# Altium footprint library Xbee3_Micro_Customer_pcb_footprint.PcbLib: 1 footprints
Each footprint in its own frame and in the unit in brackets; x right, y up, seen from the top. Pads: shape width x height; smd on the part's side, far side on the other; paste and mask are expansions set on the pad; w line width, h text height; cw(c..) or ccw(c..) is an arc to the next point about the centre after c.
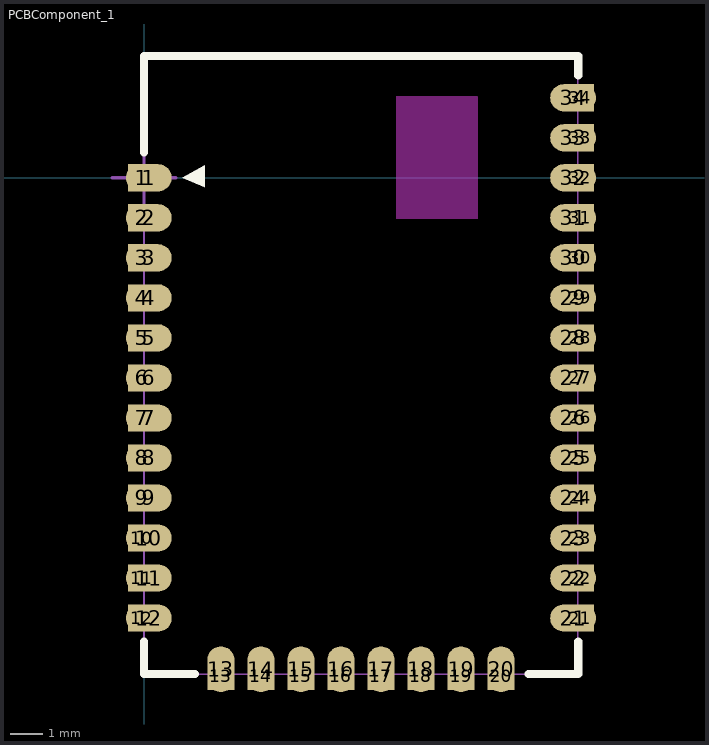
[diagram p0: the footprint, top view; thin cyan lines are the x and y axes]

## PCBComponent_1 [mm]
pads (68):
  rect 0.85x0.85 smd: 1(-0.075,0) 2(-0.075,-1.25) 3(-0.075,-2.5) 4(-0.075,-3.75) 5(-0.075,-5) 6(-0.075,-6.25) 7(-0.075,-7.5) 8(-0.075,-8.75) 9(-0.075,-10) 10(-0.075,-11.25) 11(-0.075,-12.5) 12(-0.075,-13.75) 13(2.4,-15.575) 14(3.65,-15.575) 15(4.9,-15.575) 16(6.15,-15.575) 17(7.4,-15.575) 18(8.65,-15.575) 19(9.9,-15.575) 20(11.15,-15.575) 21(13.625,-13.75) 22(13.625,-12.5) 23(13.625,-11.25) 24(13.625,-10) 25(13.625,-8.75) 26(13.625,-7.5) 27(13.625,-6.25) 28(13.625,-5) 29(13.625,-3.75) 30(13.625,-2.5) 31(13.625,-1.25) 32(13.625,0) 33(13.625,1.25) 34(13.625,2.5)
  oval 1.43x0.85 smd: 1(0.15,0) 2(0.15,-1.25) 3(0.15,-2.5) 4(0.15,-3.75) 5(0.15,-5) 6(0.15,-6.25) 7(0.15,-7.5) 8(0.15,-8.75) 9(0.15,-10) 10(0.15,-11.25) 11(0.15,-12.5) 12(0.15,-13.75) 21(13.4,-13.75) 22(13.4,-12.5) 23(13.4,-11.25) 24(13.4,-10) 25(13.4,-8.75) 26(13.4,-7.5) 27(13.4,-6.25) 28(13.4,-5) 29(13.4,-3.75) 30(13.4,-2.5) 31(13.4,-1.25) 32(13.4,0) 33(13.4,1.25) 34(13.4,2.5)
  oval 0.85x1.43 smd: 13(2.4,-15.35) 14(3.65,-15.35) 15(4.9,-15.35) 16(6.15,-15.35) 17(7.4,-15.35) 18(8.65,-15.35) 19(9.9,-15.35) 20(11.15,-15.35)
Top Layer keep-out:
  region: 7.88,2.535 10.42,2.535 10.42,-1.275 7.88,-1.275
Mid-Layer 1 keep-out:
  region: 7.874,2.534 10.414,2.534 10.414,-1.276 7.874,-1.276
Mid-Layer 2 keep-out:
  region: 7.874,2.534 10.414,2.534 10.414,-1.276 7.874,-1.276
Top Overlay:
  region: 1.9,-0.3 1.9,0.4 1.2,0
  lines w0.254: -0.003,-14.478 -0.003,-15.494 1.597,-15.494 ; -0.003,0.787 -0.003,3.81 13.56,3.81 13.56,3.2 ; 12.011,-15.494 13.56,-15.494 13.56,-14.478
Keep-Out Layer:
  region: 7.875,2.54 10.411,2.54 10.411,-1.27 7.875,-1.27
Mechanical 3:
  lines w0.051: 0,-15.5 0,3.8 13.55,3.8 13.55,-15.5 0,-15.5
  text ".Designator" at 0,1 h0.77
  text "1" at 0.9,-0.75 h1.27
  text "34" at 11.45,1.7 h1.27
  text "20" at 10.6,-15 h1.27
  text "13" at 1.7,-15 h1.27
Mechanical 20:
  lines w0.025: 0,-15.5 0,3.8 13.55,3.8 13.55,-15.5 0,-15.5
Mechanical 31:
  lines w0.1: -1,0 1,0 ; 0,-1 0,1